# EAGLE library part MAX4544 (library PP_AnalogIC)
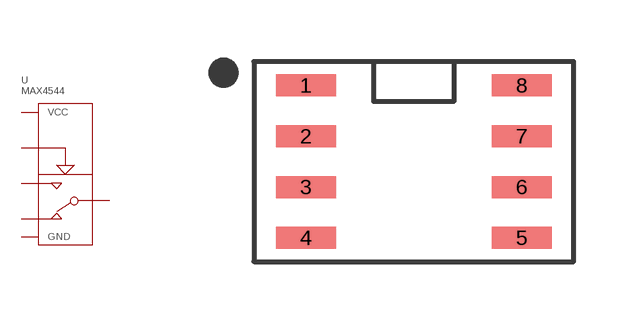
[diagram p11: symbol with the pads of AZ4558C_SOIC-8; footprint AZ4558C_SOIC-8]

Designator prefix U

## MAX4544  [AZ4558C_SOIC-8]
1  NO
2  COM
3  NC
4  GND
7  IN
8  VCC

## Footprint AZ4558C_SOIC-8 (pad centres in mm)
smd 1.5 x 0.55: 1 -2.7,1.905; 2 -2.7,0.635; 3 -2.7,-0.635; 4 -2.7,-1.905; 5 2.7,-1.905; 6 2.7,-0.635; 7 2.7,0.635; 8 2.7,1.905